# Altium schematic symbol library BM04B-PASS-1-TFTLFSN.SchLib: 1 symbol
Pins are listed as number, name and electrical type; pins without a type are passive.

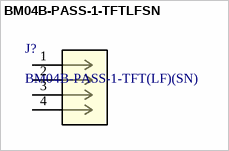
[diagram p0: symbol BM04B-PASS-1-TFTLFSN]

## BM04B-PASS-1-TFTLFSN
designator J?, comment BM04B-PASS-1-TFT(LF)(SN)
Description; Manufacturer_Name: JST; Copyright: Copyright (C) 2025 Ultra Librarian. All rights reserved.; Manufacturer_Part_Number: BM04B-PASS-1-TFT(LF)(SN); RefDes: RefDes; Type: Type
footprint CONN_BM04B-PASS-1-TFTLFSN_JST
pins: 1, 2, 3, 4